# Altium footprint library si5345.PcbLib: 1 footprints
Each footprint in its own frame and in the unit in brackets; x right, y up, seen from the top. Pads: shape width x height; smd on the part's side, far side on the other; paste and mask are expansions set on the pad; w line width, h text height; cw(c..) or ccw(c..) is an arc to the next point about the centre after c.
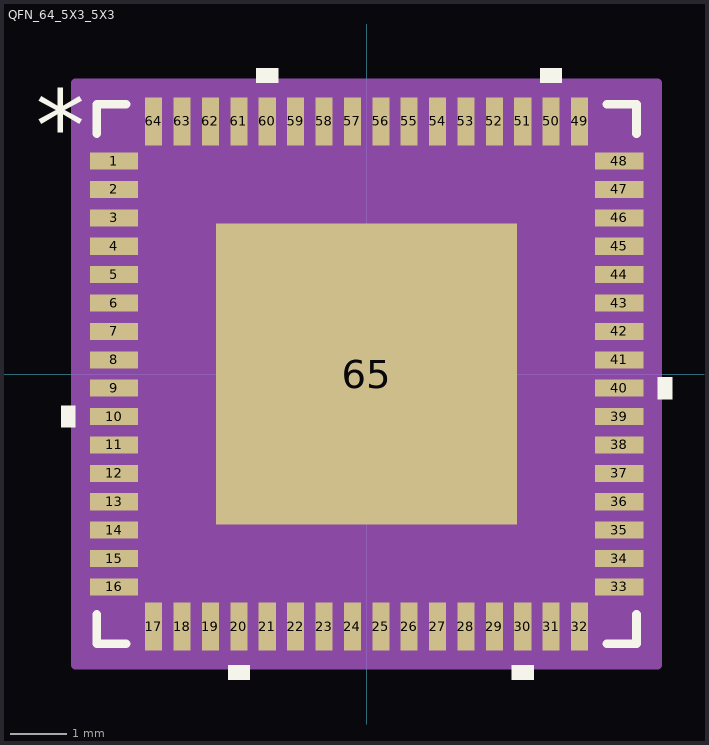
[diagram p0: the footprint, top view; thin cyan lines are the x and y axes]

## QFN_64_5X3_5X3 [mm]
pads (65):
  rect 0.85x0.3 smd paste-0.15 mask-0.419: 1(-4.45,3.751) 2(-4.45,3.251) 3(-4.45,2.751) 4(-4.45,2.251) 5(-4.45,1.75) 6(-4.45,1.25) 7(-4.45,0.75) 8(-4.45,0.25) 9(-4.45,-0.25) 10(-4.45,-0.75) 11(-4.45,-1.25) 12(-4.45,-1.75) 13(-4.45,-2.251) 14(-4.45,-2.751) 15(-4.45,-3.251) 16(-4.45,-3.751) 33(4.45,-3.751) 34(4.45,-3.251) 35(4.45,-2.751) 36(4.45,-2.251) 37(4.45,-1.75) 38(4.45,-1.25) 39(4.45,-0.75) 40(4.45,-0.25) 41(4.45,0.25) 42(4.45,0.75) 43(4.45,1.25) 44(4.45,1.75) 45(4.45,2.251) 46(4.45,2.751) 47(4.45,3.251) 48(4.45,3.751)
  rect 0.3x0.85 smd paste-0.15 mask-0.419: 17(-3.751,-4.45) 18(-3.251,-4.45) 19(-2.751,-4.45) 20(-2.251,-4.45) 21(-1.75,-4.45) 22(-1.25,-4.45) 23(-0.75,-4.45) 24(-0.25,-4.45) 25(0.25,-4.45) 26(0.75,-4.45) 27(1.25,-4.45) 28(1.75,-4.45) 29(2.251,-4.45) 30(2.751,-4.45) 31(3.251,-4.45) 32(3.751,-4.45) 49(3.751,4.45) 50(3.251,4.45) 51(2.751,4.45) 52(2.251,4.45) 53(1.75,4.45) 54(1.25,4.45) 55(0.75,4.45) 56(0.25,4.45) 57(-0.25,4.45) 58(-0.75,4.45) 59(-1.25,4.45) 60(-1.75,4.45) 61(-2.251,4.45) 62(-2.751,4.45) 63(-3.251,4.45) 64(-3.751,4.45)
  rect 5.3x5.3 smd paste-2.65 mask-2.654: 65(0,0)
Top Overlay:
  region: -5.129,-0.56 -5.383,-0.56 -5.383,-0.941 -5.129,-0.941
  region: -2.06,-5.129 -2.441,-5.129 -2.441,-5.383 -2.06,-5.383
  region: 2.941,-5.129 2.56,-5.129 2.56,-5.383 2.941,-5.383
  region: 5.129,-0.06 5.383,-0.06 5.383,-0.441 5.129,-0.441
  region: 3.441,5.129 3.06,5.129 3.06,5.383 3.441,5.383
  region: -1.56,5.129 -1.941,5.129 -1.941,5.383 -1.56,5.383
  lines w0.152: -4.754,-4.234 -4.754,-4.754 -4.234,-4.754 ; -4.754,4.234 -4.754,4.754 -4.234,4.754 ; 4.234,-4.754 4.754,-4.754 4.754,-4.234 ; 4.234,4.754 4.754,4.754 4.754,4.234
  text "*" at -5.827,3.747 h1.27
Top Paste:
  drawing of 81 lines, arcs and shapes, not listed
Top Solder:
  drawing of 64 lines, arcs and shapes, not listed
Mechanical 13:
  drawing of 261 lines, arcs and shapes, not listed
  text "*" at -5.827,3.747 h1.27
Mechanical 15:
  region: 5.129,-5.129 -5.129,-5.129 -5.129,5.129 5.129,5.129
  lines w0.152: -5.129,-5.129 -5.129,5.129 5.129,5.129 5.129,-5.129 -5.129,-5.129